# EAGLE library part DSPIC30F2023-30I/PT (library Microchip_By_element14_Batch_1)
Digital Signal Controllers
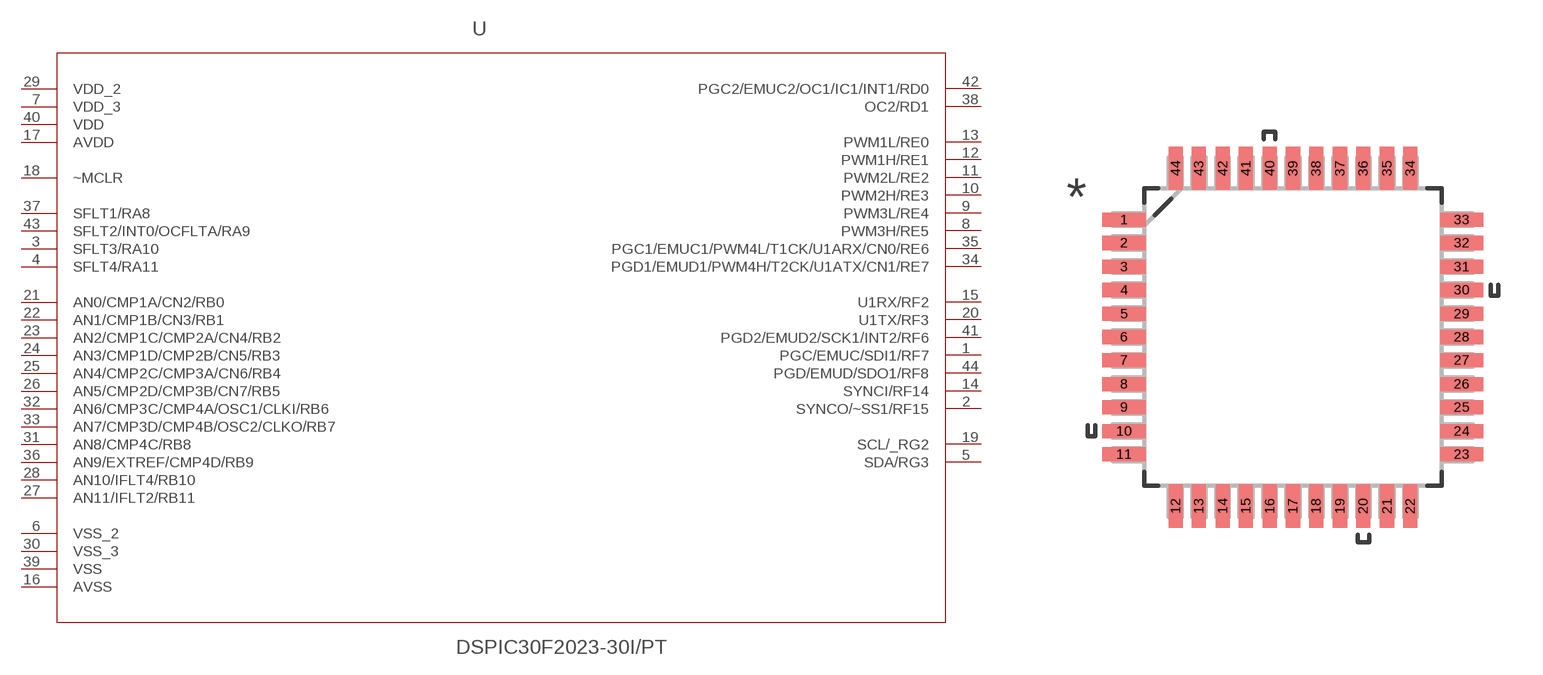
[diagram p286: symbol with the pads of QFP80P1200X1200X120-44N; footprint QFP80P1200X1200X120-44N]

Designator prefix -

## DSPIC30F2023-30I/PT (MPN: DSPIC30F2023-30I/PT; OC_FARNELL: 1332027; OC_NEWARK: 88K3889; PACKAGE: TQFP-44; SUPPLIER: Microchip)  [QFP80P1200X1200X120-44N]
1  PGC/EMUC/SDI1/RF7
2  SYNCO/~SS1/RF15
3  SFLT3/RA10
4  SFLT4/RA11
5  SDA/RG3
6  VSS_2  pwr
7  VDD_3  pwr
8  PWM3H/RE5
9  PWM3L/RE4
10  PWM2H/RE3
11  PWM2L/RE2
12  PWM1H/RE1
13  PWM1L/RE0
14  SYNCI/RF14
15  U1RX/RF2
16  AVSS  pwr
17  AVDD  pwr
18  ~MCLR  in
19  SCL/_RG2  in
20  U1TX/RF3
21  AN0/CMP1A/CN2/RB0
22  AN1/CMP1B/CN3/RB1
23  AN2/CMP1C/CMP2A/CN4/RB2
24  AN3/CMP1D/CMP2B/CN5/RB3
25  AN4/CMP2C/CMP3A/CN6/RB4
26  AN5/CMP2D/CMP3B/CN7/RB5
27  AN11/IFLT2/RB11
28  AN10/IFLT4/RB10
29  VDD_2  pwr
30  VSS_3  pwr
31  AN8/CMP4C/RB8
32  AN6/CMP3C/CMP4A/OSC1/CLKI/RB6
33  AN7/CMP3D/CMP4B/OSC2/CLKO/RB7
34  PGD1/EMUD1/PWM4H/T2CK/U1ATX/CN1/RE7
35  PGC1/EMUC1/PWM4L/T1CK/U1ARX/CN0/RE6
36  AN9/EXTREF/CMP4D/RB9
37  SFLT1/RA8
38  OC2/RD1  in
39  VSS  pwr
40  VDD  pwr
41  PGD2/EMUD2/SCK1/INT2/RF6
42  PGC2/EMUC2/OC1/IC1/INT1/RD0
43  SFLT2/INT0/OCFLTA/RA9
44  PGD/EMUD/SDO1/RF8

## Footprint QFP80P1200X1200X120-44N (pad centres in mm)
smd 1.473 x 0.483: 1 -5.74,3.988; 2 -5.74,3.2; 3 -5.74,2.388; 4 -5.74,1.6; 5 -5.74,0.787; 6 -5.74,0; 7 -5.74,-0.787; 8 -5.74,-1.6; 9 -5.74,-2.388; 10 -5.74,-3.2; 11 -5.74,-3.988; 23 5.74,-3.988; 24 5.74,-3.2; 25 5.74,-2.388; 26 5.74,-1.6; 27 5.74,-0.787; 28 5.74,0; 29 5.74,0.787; 30 5.74,1.6; 31 5.74,2.388; 32 5.74,3.2; 33 5.74,3.988
smd 0.483 x 1.473: 12 -3.988,-5.74; 13 -3.2,-5.74; 14 -2.388,-5.74; 15 -1.6,-5.74; 16 -0.787,-5.74; 17 0,-5.74; 18 0.787,-5.74; 19 1.6,-5.74; 20 2.388,-5.74; 21 3.2,-5.74; 22 3.988,-5.74; 34 3.988,5.74; 35 3.2,5.74; 36 2.388,5.74; 37 1.6,5.74; 38 0.787,5.74; 39 0,5.74; 40 -0.787,5.74; 41 -1.6,5.74; 42 -2.388,5.74; 43 -3.2,5.74; 44 -3.988,5.74